# Altium schematic symbol library PT1301.SchLib: 1 symbol
Pins are listed as number, name and electrical type; pins without a type are passive.

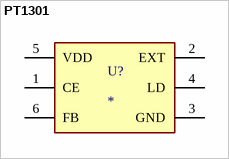
[diagram p0: symbol PT1301]

## PT1301
designator U?
Power Switch/Driver 1:1 N-Channel 500mA SOT-23-5; MF: STMicroelectronics; MP: STMPS2151STR; SnapEDA_Link: https://www.snapeda.com/parts/STMPS2151STR/STMicroelectronics/view-part/?ref=snap; Package: SOT-23-5 STMicroelectronics; Value: *; Check_prices: https://www.snapeda.com/parts/STMPS2151STR/STMicroelectronics/view-part/?ref=eda
footprint PT1301
pins: 1 CE (power), 2 EXT, 3 GND (power), 4 LD, 5 VDD (power), 6 FB